# Altium schematic symbol library SMD Capacitors 1206.SchLib: 2 symbols
Pins are listed as number, name and electrical type; pins without a type are passive.

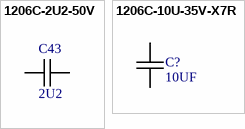
[diagram p0: symbols 1206C-2U2-50V to 1206C-10U-35V-X7R]

## 1206C-2U2-50V
designator C43, comment 2U2
CAPACITOR 0603 CERAMIC; REEL: C100; Supplier 1: Digi-Key; Supplier Part Number 1: 490-4796-2-ND
footprint 1206C-GENERIC
pins: 1, 2

## 1206C-10U-35V-X7R
designator C?, comment 10UF
GENERIC CAPACITOR NON POLARISED 1206; Manufacturer Part Number: GMK316F106ZL-T; Manufacturer: Taiyo Yuden; Reel: C90; Description: CAP CER 10UF 35V Y5V 1206; Supplier 1: Digi-Key; Supplier Part Number 1: 587-1352-2-ND
footprint 1206C-GENERIC
pins: 1, 2